# EAGLE library part INA137PA (library INA137PA)
Audio Differential Line Receivers, +-6dB (G=1/2 or 2) Source: Datasheet <https://www.ti.com/lit/gpn/ina137>
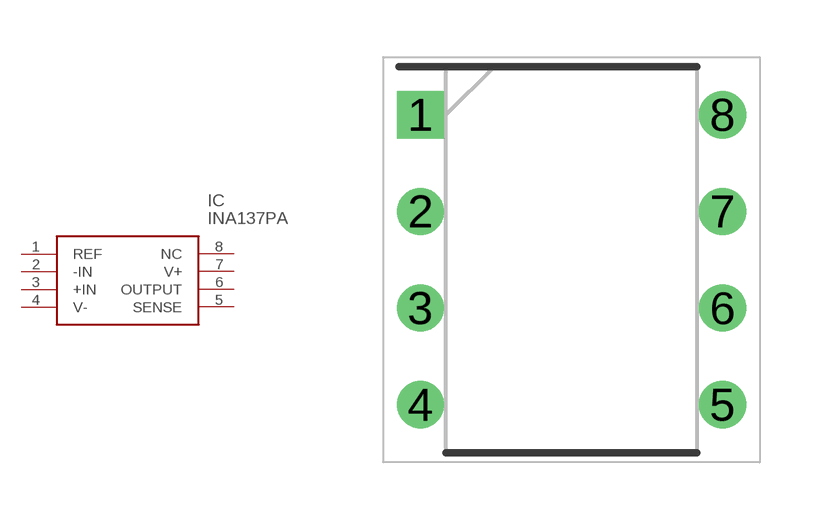
[diagram p0: symbol with the pads of DIP794W53P254L959H508Q8N; footprint DIP794W53P254L959H508Q8N]

Designator prefix IC

## INA137PA (Arrow_Part_Number: INA137PA; Arrow_Price-Stock: https://www.arrow.com/en/products/ina137pa/texas-instruments?region=nac; Description: Audio Differential Line Receivers, +-6dB (G=1/2 or 2); Height: 5.08mm; Manufacturer_Name: Texas Instruments; Manufacturer_Part_Number: INA137PA; Mouser_Part_Number: 595-INA137PA; Mouser_Price-Stock: https://www.mouser.co.uk/ProductDetail/Texas-Instruments/INA137PA?qs=VBduBm9rCJR0Awr2sjGHZA%3D%3D)  [DIP794W53P254L959H508Q8N]
1  REF
2  -IN
3  +IN
4  V-
5  SENSE
6  OUTPUT
7  V+
8  NC  nc

## Footprint DIP794W53P254L959H508Q8N (pad centres in mm)
P (R-PDIP-T8)
drill 0.73 pad 1.13 square: 1 -3.97,3.81
drill 0.73 pad 1.13: 2 -3.97,1.27; 3 -3.97,-1.27; 4 -3.97,-3.81; 5 3.97,-3.81; 6 3.97,-1.27; 7 3.97,1.27; 8 3.97,3.81